# Altium integrated library TactileSW.IntLib: 1 symbol
Pins are listed as number, name and electrical type; pins without a type are passive.

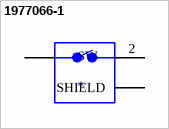
[diagram p0: symbol 1977066-1]

## 1977066-1
designator SW
Switch Tactile OFF _ON_ SPST Round Button Gull Wing 0.05A 12VDC 100000Cycles 1.57N SMD T/R; MF: TE Connectivity; MP: 1977066-1; Package: None; Value: *; Price: None; SnapEDA_Link: https://www.snapeda.com/parts/1977066-1/TE%20Connectivity%20ALCOSWITCH%20Switches/view-part/2190229/?ref=snap; Availability: Unavailable
footprint TE_1977066-1
pins: 1, 2, 3 1, S1 SHIELD, S2 SHIELD